# Altium footprint library Ag99XXXX.PcbLib: 1 footprints
Each footprint in its own frame and in the unit in brackets; x right, y up, seen from the top. Pads: shape width x height; smd on the part's side, far side on the other; paste and mask are expansions set on the pad; w line width, h text height; cw(c..) or ccw(c..) is an arc to the next point about the centre after c.
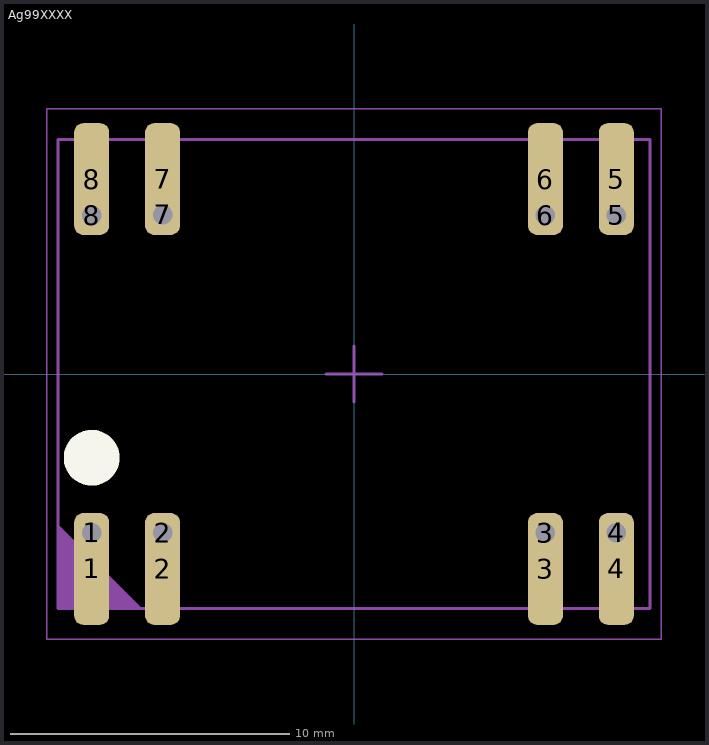
[diagram p0: the footprint, top view; thin cyan lines are the x and y axes]

## Ag99XXXX [mm]
pads (16):
  rrect50% 1.25x4 smd mask+0.05: 1(-9.398,-6.985) 2(-6.858,-6.985) 3(6.858,-6.985) 4(9.398,-6.985) 5(9.398,6.985) 6(6.858,6.985) 7(-6.858,6.985) 8(-9.398,6.985)
  oct 1.25x1.25 hole 0.7 mask+0.05: 1(-9.398,-5.69) 2(-6.858,-5.69) 3(6.858,-5.69) 4(9.398,-5.69) 5(9.398,5.69) 6(6.858,5.69) 7(-6.858,5.705) 8(-9.398,5.69)
Top Overlay:
  circle w1: c-9.398,-3 r0.5
Top Assembly:
  region: -10.6,-8.4 -7.6,-8.4 -10.6,-5.4
  lines w0.1: -10.6,-8.4 -10.6,8.4 10.6,8.4 10.6,-8.4 -10.6,-8.4
Top Courtyard:
  lines w0.05: -11,-9.5 -11,9.5 11,9.5 11,-9.5 -11,-9.5
  lines w0.1: -1,0 1,0 ; 0,-1 0,1
3D body "Ag9900.step": height 13.39, standoff 0.04, extent -10.59,-8.37 10.6,8.37